# Altium footprint library PCB - POWER - MGJ1D241509MPCR7.PCBLIB: 1 footprints
Each footprint in its own frame and in the unit in brackets; x right, y up, seen from the top. Pads: shape width x height; smd on the part's side, far side on the other; paste and mask are expansions set on the pad; w line width, h text height; cw(c..) or ccw(c..) is an arc to the next point about the centre after c.
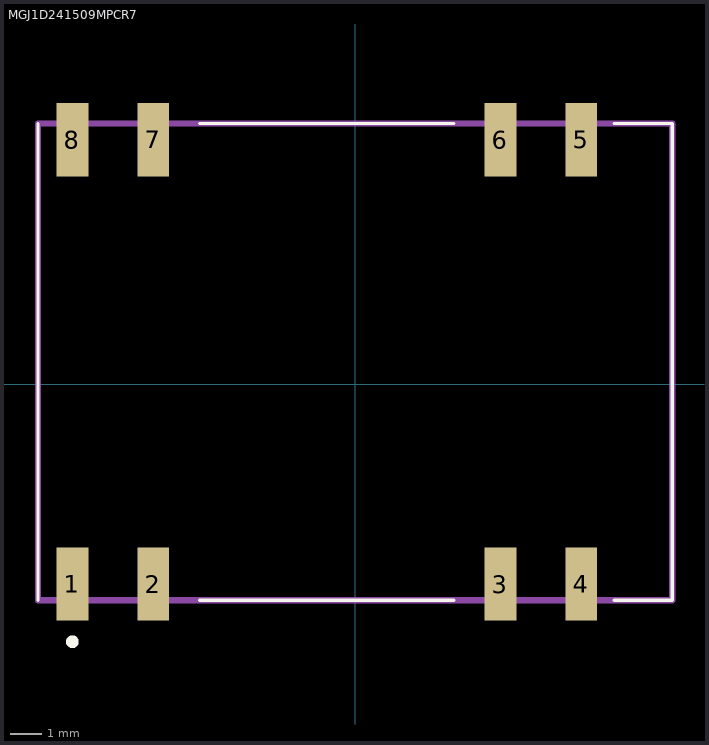
[diagram p0: the footprint, top view; thin cyan lines are the x and y axes]

## MGJ1D241509MPCR7 [mm]
pads (8):
  rect 1x2.3 smd: 1(-8.89,-6.283) 2(-6.35,-6.283) 3(4.57,-6.283) 4(7.11,-6.283) 5(7.11,7.688) 6(4.57,7.688) 7(-6.35,7.688) 8(-8.89,7.688)
Top Overlay:
  lines w0.1: -9.97,-6.793 -9.97,8.197 ; -4.89,-6.793 3.11,-6.793 ; -4.89,8.197 3.11,8.197 ; 8.15,-6.793 9.97,-6.793 9.97,8.197 8.15,8.197
  lines w0.2: -8.99,-8.097 cw(c-8.891,-8.097) -8.791,-8.097 cw(c-8.891,-8.097) -8.99,-8.097
Top Value (Mech13):
  lines w0.2: -9.97,-6.793 -9.97,8.197 9.97,8.197 9.97,-6.793 -9.97,-6.793
3D body "MGJ1D241509MPC-R7.stp": height 4.41, standoff 0, extent -9.97,-6.643 9.97,8.343